# Altium schematic symbol library MOLEX_0533980471.SchLib: 1 symbol
Pins are listed as number, name and electrical type; pins without a type are passive.

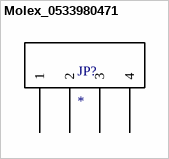
[diagram p0: symbol Molex_0533980471]

## Molex_0533980471
designator JP?
PartNumber: 0533980471; Manufacturer: Molex
footprint MOLEX_0533980471
pins: 1, 2, 3, 4